# Altium schematic symbol library BC547.SchLib: 1 symbol
Pins are listed as number, name and electrical type; pins without a type are passive.

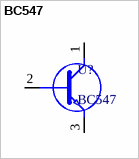
[diagram p0: symbol BC547]

## BC547
designator U?
TRANS NPN 45V 0.1A TO-92; Manufacturer: ON Semiconductor / Fairchild; Configuration: Single; Collector- Base Voltage VCBO: 50 V; Emitter- Base Voltage VEBO: 6 V; Collector-Emitter Saturation Voltage: 250 mV; Gain Bandwidth Product fT: 300 MHz; Brand: Fairchild Semiconductor; DC Collector/Base Gain hfe Min: 110; DC Current Gain hFE Max: 800; Maximum Power Dissipation: 0.5 W; Unit Weight: 0.007055 oz; Product Category: Bipolar Transistors - BJT; Transistor Polarity: NPN; Collector- Emitter Voltage VCEO Max: 45 V; Maximum DC Collector Current: 0.1 A; Maximum Operating Temperature: + 150 C; Mounting Style: Through Hole; Package / Case: TO-92-3; Minimum Operating Temperature: - 65 C; Packaging: Bulk; Series: BC547; Factory Pack Quantity: 2000; ComponentLink1URL: http://www.farnell.com/datasheets/1868820.pdf; ComponentLink1Description: http://www.farnell.com/datasheets/1868820.pdf; ComponentLink2URL: http://www.mouser.com/ds/2/149/fairchild%20semiconductor_bc547-320187.pdf; ComponentLink2Description: http://www.mouser.com/ds/2/149/fairchild%20semiconductor_bc547-320187.pdf; ComponentLink3URL: http://www.fairchildsemi.com/ds/BC/BC547.pdf; ComponentLink3Description: http://www.fairchildsemi.com/ds/BC/BC547.pdf; ComponentLink4URL: https://www.fairchildsemi.com/datasheets/BC/BC546.pdf; ComponentLink4Description: https://www.fairchildsemi.com/datasheets/BC/BC546.pdf
footprint BC547 (SOT89, 3-Leads, Body 4.76x4.83mm, Pitch 1.27mm, Lead Span 19.2mm, IPC Medium Density)
pins: 1 C, 2 B, 3 E